# Altium schematic symbol library UC2714.SchLib: 1 symbol
Pins are listed as number, name and electrical type; pins without a type are passive.

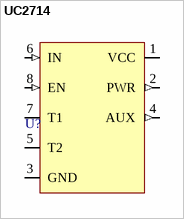
[diagram p0: symbol UC2714]

## UC2714
designator U?
pins: 1 VCC (power), 2 PWR (out), 3 GND (power), 4 AUX (out), 5 T2, 6 IN (in), 7 T1, 8 EN (in)